# Altium schematic symbol library BlockSchematics.SchLib: 194 symbols
Pins are listed as number, name and electrical type; pins without a type are passive.

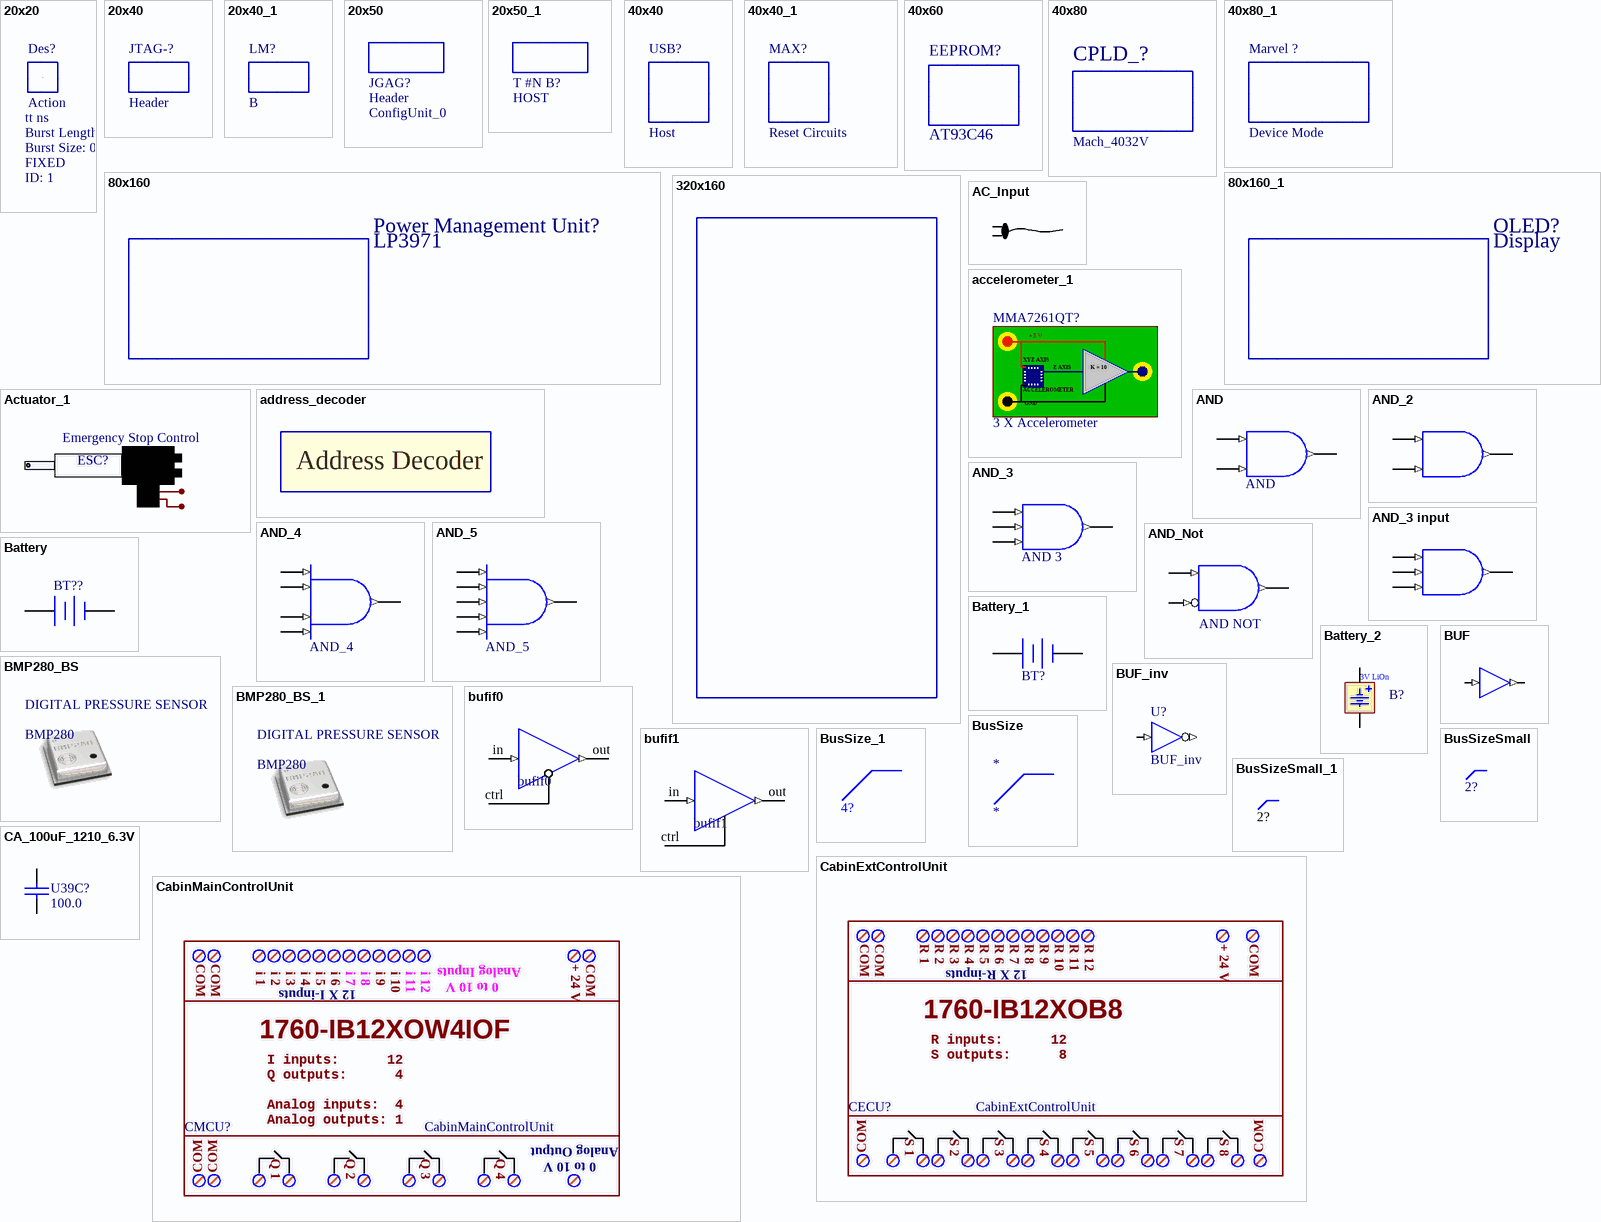
[diagram p0: symbols 20x20 to CabinMainControlUnit]

## 20x20
designator Des?, comment Action  Burst type: FIXED  Time of Action: tt ns  Burst Length: 0  ID: 1
Burst Size: 0
pins: 1, 2, 3, 4, 5, 6, 7, 8, 9

## 20x40
designator JTAG-?, comment Header
pins: 1, 2, 3, 4, 5, 6, 7, A57 0

## 20x40_1
designator LM?, comment B
pins: 1, 2, 3, 4, 5, 6, 7, A57 0

## 20x50
designator JGAG?, comment Header
pins: 0, 1, 2, 3, 4, 5, 6, 7, 8, 9
text: ConfigUnit_0

## 20x50_1
designator T #N B?, comment HOST
pins: 0, 1, 2, 3, 4, 5, 6, 7, 8, 9

## 40x40
designator USB?, comment Host
pins: 1, 2, 3, 4, 5, 6, 7, 8, 9, 10, 11, A57 0

## 40x40_1
designator MAX?, comment Reset Circuits
pins: 1, 2, 3, 4, 5, 6, 7, 8, 9, 10, 11, A57 0

## 40x60
designator EEPROM?, comment AT93C46
pins: 1, 2, 3, 4, 5, 6, 7, 8, 9, 10, 11, 12, 13, 14, 15, A57 0

## 40x80
designator CPLD_?, comment Mach_4032V
pins: 0, 1, 2, 3, 4, 5, 6, 7, 8, 9, 10, 11, 12, 13, 14, 15, 16, 17, 18, 19

## 40x80_1
designator Marvel ?, comment Device Mode
pins: 0, 1, 2, 3, 4, 5, 6, 7, 8, 9, 10, 11, 12, 13, 14, 15, 16, 17, 18, 19

## 80x160
designator Power Management Unit?, comment LP3971
pins: 0, 1, 2, 3, 4, 5, 6, 7, 8, 9, 10, 11, 12, 13, 14, 15, 16, 17, 18, 19, 20, 21, 22, 23, 24, 25, 26, 27, 28, 29, 30, 31, 32, 33, 34, 35, 36, 37, 38, 39, 40, 41, 42, 43

## 80x160_1
designator OLED?, comment Display
pins: 0, 1, 2, 3, 4, 5, 6, 7, 8, 9, 10, 11, 12, 13, 14, 15, 16, 17, 18, 19, 20, 21, 22, 23, 24, 25, 26, 27, 28, 29, 30, 31, 32, 33, 34, 35, 36, 37, 38, 39, 40, 41, 42, 43

## 320x160
designator ??, comment ??  (value not drawn)
pins: 0, 1, 2, 3, 4, 5, 6, 7, 8, 9, 10, 11, 12, 13, 14, 15, 16, 17, 18, 19, 20, 21, 22, 22, 23, 23, 23, 23, 24, 24, 24, 24, 24, 24, 25, 25, 25, 25, 25, 25, 25, 25, 26, 26, 26, 26, 26, 26, 26, 26, 26, 27, 27, 27, 27, 27, 27, 27, 27, 27, 28, 28, 28, 28, 28, 28, 28, 28, 29, 29, 29, 29, 29, 29, 30, 30, 30, 30, 31, 31, 32, 33, 34, 35, 36, 37, 38, 39, 40, 41, 42, 43

## AC_Input
designator *?  (value not drawn)

## accelerometer_1
designator MMA7261QT?, comment 3 X Accelerometer
text: + 5 V; XYZ AXIS; Z AXIS; K = 10; ACCELEROMETER; GND

## Actuator_1
designator ESC?, comment Emergency Stop Control

## address_decoder
designator ?, comment ?  (value not drawn)
pins: 4, 4, 4, 4, 4, 4, 4, 4, 4, 4, 5, 5, 5, 5, 5, 5, 5, 5, 5, 5, 5, 5, 6, 6, 6, 6, 6, 6, 6, 6, 6, 6
text: Address Decoder

## AND
designator U?
2 Input AND
pins: A (in), B (in), Y (out)

## AND_2
designator U?, comment AND 2  (value not drawn)
2 Input AND
pins: A (in), B (in), Y (out)

## AND_3
designator U?, comment AND 3
AND 3 input
pins: A (in), B (in), C (in), Y (out)

## AND_3 input
designator U?, comment AND 3  (value not drawn)
2 Input AND
pins: A (in), B (in), C (in), Y (out)

## AND_4
designator U?
4 Input AND
pins: A (in), B (in), C (in), D (in), Y (out)

## AND_5
designator U?
4 Input AND
pins: A (in), B (in), C (in), D (in), E (in), Y (out)

## AND_Not
designator U?, comment AND NOT
2 Input AND
pins: A (in), B (in), Y (out)

## Battery
designator BT??  (value not drawn)
Multicell Battery; Published: 24-Mar-1999; LatestRevisionDate: 17-Jul-2002; LatestRevisionNote: Re-released for DXP Platform.; PackageReference: BAT-2; Publisher: Altium Limited; PackageDescription: Battery; 2 Leads
footprint BAT-2 (Battery; 2 Leads)
pins: 1 +, 2 -

## Battery_1
designator BT?, comment Battery  (value not drawn)
Multicell Battery; Published: 24-Mar-1999; LatestRevisionDate: 17-Jul-2002; LatestRevisionNote: Re-released for DXP Platform.; PackageReference: BAT-2; Publisher: Altium Limited
footprint BAT-2 (Multicell Battery; 2 Leads)
pins: 1 +, 2 -

## Battery_2
designator B?  (value not drawn)
pins: 1, 2
text: 3V LiOn

## BMP280_BS
designator DIGITAL PRESSURE SENSOR, comment BMP280

## BMP280_BS_1
designator DIGITAL PRESSURE SENSOR, comment BMP280

## BUF
designator U?  (value not drawn)
1-bit General Purpose (Non-inverting) Buffer
pins: I (in), O (out)

## BUF_inv
designator U?
1-bit General Purpose (Non-inverting) Buffer
pins: I (in), O (out)

## bufif0
designator U?
pins: ctrl, in (in), out (out)

## bufif1
designator U?
pins: ctrl, in (in), out (out)

## BusSize
designator *

## BusSize_1
designator 4?, comment BusSize  (value not drawn)

## BusSizeSmall
designator 2?, comment BusSize  (value not drawn)

## BusSizeSmall_1
designator 2?, comment BusSize  (value not drawn)

## CA_100uF_1210_6.3V
designator U39C?, comment 100.0
CAP 100UF 6.3V CERAMIC X5R 1210; Part_Number: ECJ-4YB0J107M; Vendor: Panasonic - ECG; Digi-Key Part Number: PCC2267CT-ND
simulation model CAP (Semiconductor Capacitor)
signal-integrity model Cap Semi
footprint 1210
pins: 1, 2

## CabinExtControlUnit
designator CECU?
text: COM; R 1; R 2; R 3; R 4; R 5; R 6; R 7; R 8; R 9; R 10; R 11; R 12; + 24 V; 12 X R-inputs; 1760-IB12XOB8; R inputs:      12; S outputs:      8; S 1; S 2; S 3; S 4; S 5; S 6; S 7; S 8

## CabinMainControlUnit
designator CMCU?
text: COM; Analog Inputs; + 24 V; i 1; i 2; i 3; i 4; i 5; i 6; i 7; i 8; i 9; i 10; i 11; i 12; 0 to 10 V; 12 X I-inputs; 1760-IB12XOW4IOF; I inputs:      12; Q outputs:      4; Analog inputs:  4; Analog outputs: 1; Analog Output; Q 1; Q 2; Q 3; Q 4

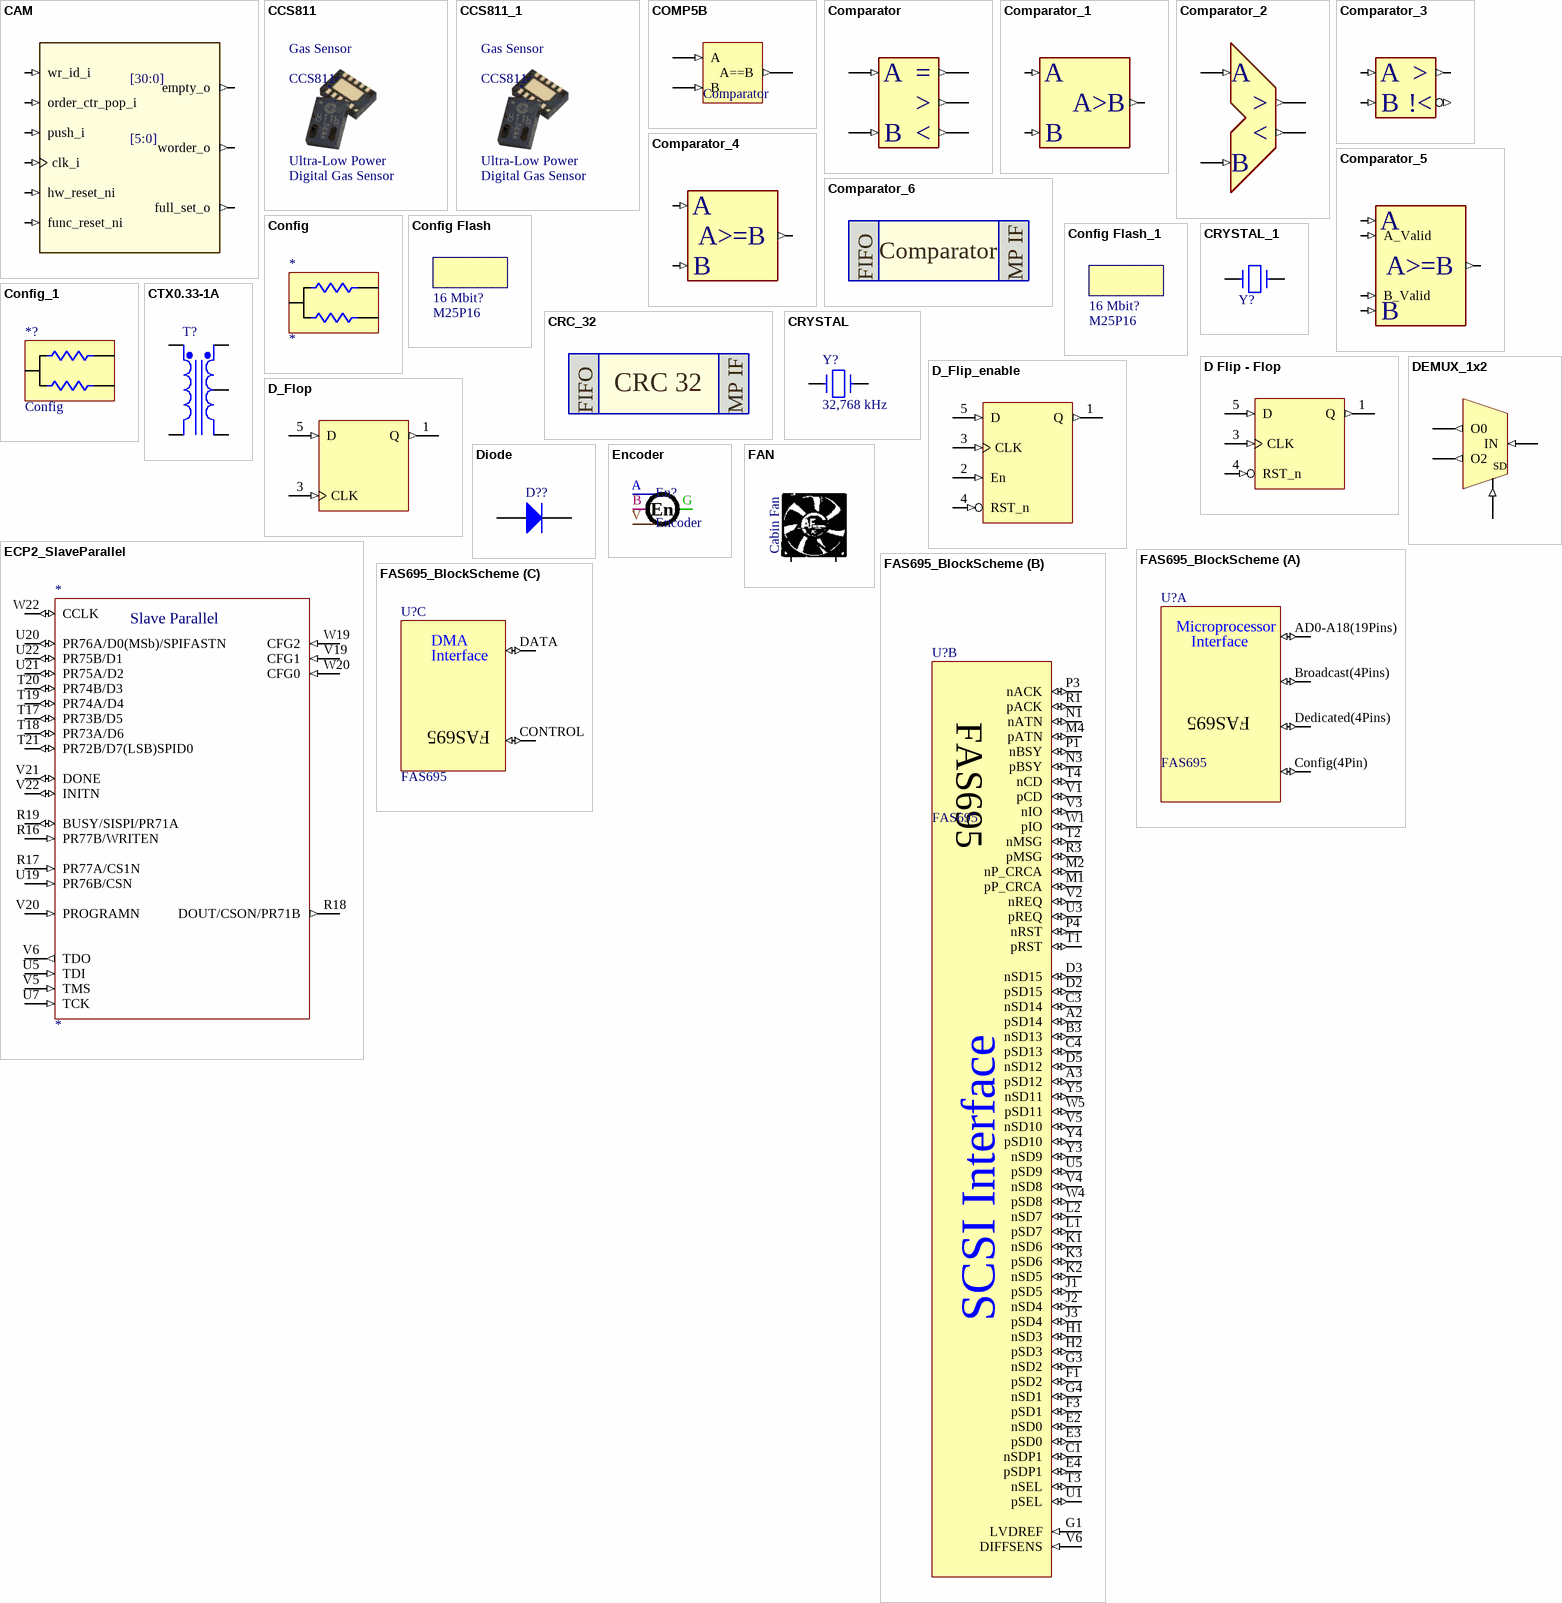
[diagram p1: symbols CAM to FAS695_BlockScheme]

## CAM
designator ?  (value not drawn)
pins: clk_i (in), empty_o (out), full_set_o (out), func_reset_ni (in), hw_reset_ni (in), order_ctr_pop_i (in), push_i (in), worder_o (out), wr_id_i (in)
text: [30:0]; [5:0]

## CCS811
designator Gas Sensor  1: Ultra-Low Power  2: Digital Gas Sensor

## CCS811_1
designator Gas Sensor, comment CCS811  1: Ultra-Low Power  2: Digital Gas Sensor

## COMP5B
designator U?, comment Comparator
5-Bit Identity Comparator, Bus Version
pins: A (in), B (in), EQ A==B (out)

## Comparator
designator *  (value not drawn)
pins: 1 A (in), 2 A (in), 3 A (out), 4 A (out), 5 A (out)
text: >; B; <

## Comparator_1
designator *  (value not drawn)
pins: 3 Out (out), A_Data[31..0] A (in), B_Data[31..0] B (in)
text: A>B

## Comparator_2
designator *  (value not drawn)
pins: 1 A (in), 2 A (in), 4 A (out), 4 A (out)
text: >; <; B

## Comparator_3
designator *  (value not drawn)
pins: 1 A (in), 2 A (in), 3 A (out), 4 A (out)
text: >; B; !<

## Comparator_4
designator *  (value not drawn)
pins: 3 Out (out), A_Data[31..0] A (in), B_Data[31..0] B (in)
text: A>=B

## Comparator_5
designator *  (value not drawn)
pins: 3 Out (out), A_Data[31..0] A (in), A_Valid (in), B_Data[31..0] B (in), B_Valid (in)
text: A>=B

## Comparator_6
designator ??, comment ??  (value not drawn)
pins: 1, 2, 3, 4, 5, 6
text: Comparator; FIFO; MP IF

## Config
designator *
pins: 1, 1, 2, 2, 3, 4, 5

## Config Flash
designator 16 Mbit?, comment M25P16
pins: 0, 1, 2, 3, 4, 5, 6, 7, 8, 9

## Config Flash_1
designator 16 Mbit?, comment M25P16
pins: 0, 1, 2, 3, 4, 5, 6, 7, 8, 9

## Config_1
designator *?, comment Config
pins: 1, 1, 2, 2, 3, 4, 5

## CRC_32
designator ??, comment ??  (value not drawn)
pins: 1, 2, 3, 4, 5, 6
text: CRC 32; FIFO; MP IF

## CRYSTAL
designator Y?, comment 32,768 kHz
Crystal
pins: 1, 2

## CRYSTAL_1
designator Y?, comment 33 MHz  (value not drawn)
Crystal
pins: 1, 2

## CTX0.33-1A
designator T?  (value not drawn)
Surface Mount 1:1 Transformer, 4.98A RMS Series Current, Octa-Pac Plus; Parallel_OCL: 0.402uH ± 25%; Parallel_I(Sat): 12.5A (Peak); Parallel_I(RMS): 10.00A DC; Parallel_DCR: 0.0037 Ohms (Typical @ 20°C); Series_OCL: 1.61uH ± 25%; Series_I(Sat): 6.25uH (Minimum); Series_I(RMS): 4.98A DC; Series_DCR: 0.015 Ohms (Typical @ 20°C); Published: 17-Jul-2002; DatasheetDocument: Dec-2001; PackageDocument: Dec-2001; PackageReference: OPA1; Publisher: Altium Limited; ComponentLink1Description: Manufacturer Link; ComponentLink1URL: http://www.cooperet.com/; ComponentLink2Description: Datasheet; ComponentLink2URL: http://www.cooperet.com/pdfs_html/EconoPacOctaPacOctaPacPlus_Specs.pdf
footprint OPA1 (SM Inductor/Transformer; 4 Leads; Body 8.89 x 8.89 x 4.19 mm (LxWxH))
pins: 1 Pri+, 2 Pri-, 3 Sec-, 4 Sec+, 4 Sec+

## D Flip - Flop
designator U??  (value not drawn)
D-Type Flip-Flop
pins: 1 Q (out), 3 CLK (in), 4 RST_n (in), 5 D (in), 7 GND (power) hidden to GND, 14 VDD (power) hidden to VDD

## D_Flip_enable
designator U?  (value not drawn)
D-Type Flip-Flop
pins: 1 Q (out), 2 En (in), 3 CLK (in), 4 RST_n (in), 5 D (in), 7 GND (power) hidden to GND, 14 VDD (power) hidden to VDD

## D_Flop
designator U??  (value not drawn)
D-Type Flip-Flop
pins: 1 Q (out), 3 CLK (in), 5 D (in), 7 GND (power) hidden to GND, 14 VDD (power) hidden to VDD

## DEMUX_1x2
designator U?  (value not drawn)
2 to 1 Mux
pins: IN (in), O0 (out), O2 (out), SD (in)

## Diode
designator D??  (value not drawn)
Default Diode; Published: 8-Jun-2000; LatestRevisionDate: 17-Jul-2002; LatestRevisionNote: Re-released for DXP Platform.; PackageVersion: Sep-1996; PackageReference: SMC; Publisher: Altium Limited; PackageDescription: DO-214-AB/SMC; 2 C-Bend Leads; Body 7.9 x 5.9 mm, inc. leads (LxW); Code_JEDEC: DO-214-AB
footprint SMC (DO-214-AB/SMC; 2 C-Bend Leads; Body 7.9 x 5.9 mm, inc. leads (LxW))
simulation model DIODE (Diode)
signal-integrity model Diode
pins: 1 A, 2 K

## ECP2_SlaveParallel
designator *
pins: R16 PR77B/WRITEN (in), R17 PR77A/CS1N (in), R18 DOUT/CSON/PR71B (out), R19 BUSY/SISPI/PR71A (io), T17 PR73B/D5 (io), T18 PR73A/D6 (io), T19 PR74A/D4 (io), T20 PR74B/D3 (io), T21 PR72B/D7(LSB)SPID0 (io), U5 TDI (in), U7 TCK (in), U19 PR76B/CSN (in), U20 PR76A/D0(MSb)/SPIFASTN (io), U21 PR75A/D2 (io), U22 PR75B/D1 (io), V5 TMS (in), V6 TDO (out), V19 CFG1 (in), V20 PROGRAMN (in), V21 DONE (io), V22 INITN (io), W19 CFG2 (in), W20 CFG0 (in), W22 CCLK (io)
text: Slave Parallel

## Encoder
designator En?
pins: A, B, G Sensor GND, V Sensor_VCC
text: En

## FAN
designator FAN?, comment Cabin Fan

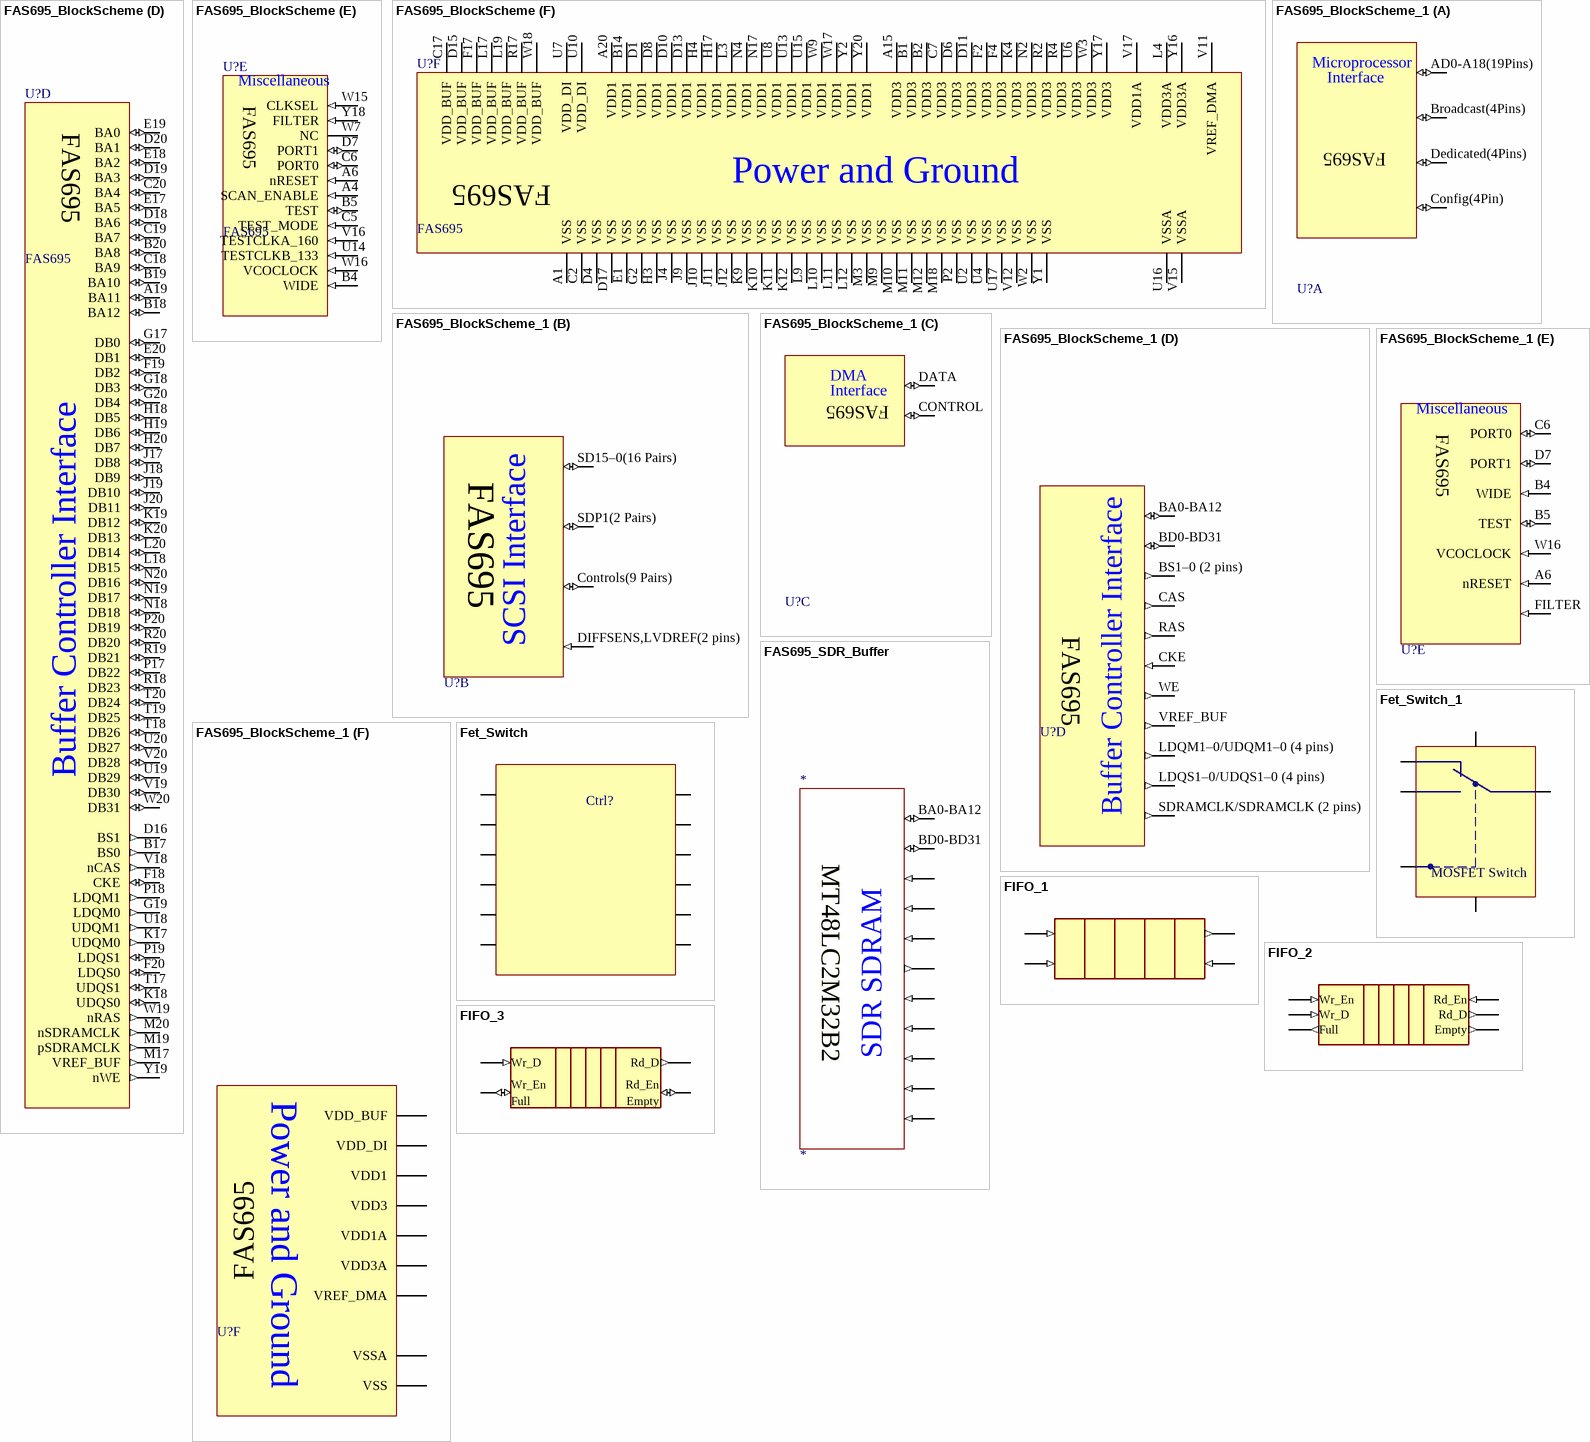
[diagram p2: symbols FAS695_BlockScheme to FIFO_3]

## FAS695_BlockScheme
designator U?, comment FAS695
Fast Architecture SCSI Processor
part A pins: AD0-A18(19Pins) (io), Broadcast(4Pins) (io), Config(4Pin) (io), Dedicated(4Pins) (io)
part B pins: A2 pSD14 (io), A3 pSD12 (io), B3 nSD13 (io), C1 nSDP1 (io), C3 nSD14 (io), C4 pSD13 (io), D2 pSD15 (io), D3 nSD15 (io), D5 nSD12 (io), E2 nSD0 (io), E3 pSD0 (io), E4 pSDP1 (io), F1 pSD2 (io), F3 pSD1 (io), G1 LVDREF (in), G3 nSD2 (io), G4 nSD1 (io), H1 nSD3 (io), H2 pSD3 (io), J1 pSD5 (io), J2 nSD4 (io), J3 pSD4 (io), K1 nSD6 (io), K2 nSD5 (io), K3 pSD6 (io), L1 pSD7 (io), L2 nSD7 (io), M1 pP_CRCA (io), M2 nP_CRCA (io), M4 pATN (io), N1 nATN (io), N3 pBSY (io), P1 nBSY (io), P3 nACK (io), P4 nRST (io), R1 pACK (io), R3 pMSG (io), T1 pRST (io), T2 nMSG (io), T3 nSEL (io), T4 nCD (io), U1 pSEL (io), U3 pREQ (io), U5 pSD9 (io), V1 pCD (io), V2 nREQ (io), V3 nIO (io), V4 nSD8 (io), V5 nSD10 (io), V6 DIFFSENS (in), W1 pIO (io), W4 pSD8 (io), W5 pSD11 (io), Y3 nSD9 (io), Y4 pSD10 (io), Y5 nSD11 (io)
part C pins: CONTROL (io), DATA (io)
part D pins: A19 BA11 (io), B17 BS0 (out), B18 BA12 (io), B19 BA10 (io), B20 BA8 (io), C18 BA9 (io), C19 BA7 (io), C20 BA4 (io), D16 BS1 (out), D18 BA6 (io), D19 BA3 (io), D20 BA1 (io), E17 BA5 (io), E18 BA2 (io), E19 BA0 (io), E20 DB1 (io), F18 CKE (io), F19 DB2 (io), F20 LDQS0 (io), G17 DB0 (io), G18 DB3 (io), G19 LDQM0 (out), G20 DB4 (io), H18 DB5 (io), H19 DB6 (io), H20 DB7 (io), J17 DB8 (io), J18 DB9 (io), J19 DB10 (io), J20 DB11 (io), K17 UDQM0 (out), K18 UDQS0 (io), K19 DB12 (io), K20 DB13 (io), L18 DB15 (io), L20 DB14 (io), M17 VREF_BUF (out), M19 pSDRAMCLK (out), M20 nSDRAMCLK (out), N18 DB18 (io), N19 DB17 (io), N20 DB16 (io), P17 DB22 (io), P18 LDQM1 (out), P19 LDQS1 (io), P20 DB19 (io), R18 DB23 (io), R19 DB21 (io), R20 DB20 (io), T17 UDQS1 (io), T18 DB26 (io), T19 DB25 (io), T20 DB24 (io), U18 UDQM1 (out), U19 DB29 (io), U20 DB27 (io), V18 nCAS (out), V19 DB30 (io), V20 DB28 (io), W19 nRAS (out), W20 DB31 (io), Y19 nWE (out)
part E pins: A4 SCAN_ENABLE (in), A6 nRESET (in), B4 WIDE (in), B5 TEST (io), C5 TEST_MODE (in), C6 PORT0 (io), D7 PORT1 (io), U14 TESTCLKB_133 (in), V16 TESTCLKA_160 (in), W7 NC, W15 CLKSEL (in), W16 VCOCLOCK (in), Y18 FILTER (in)
part F pins: A1 VSS (power), A15 VDD3 (power), A20 VDD1 (power), B1 VDD3 (power), B2 VDD3 (power), B14 VDD1 (power), C2 VSS (power), C7 VDD3 (power), C17 VDD_BUF (power), D1 VDD1 (power), D4 VSS (power), D6 VDD3 (power), D8 VDD1 (power), D10 VDD1 (power), D11 VDD3 (power), D13 VDD1 (power), D15 VDD_BUF (power), D17 VSS (power), E1 VSS (power), F2 VDD3 (power), F4 VDD3 (power), F17 VDD_BUF (power), G2 VSS (power), H3 VSS (power), H4 VDD1 (power), H17 VDD1 (power), J4 VSS (power), J9 VSS (power), J10 VSS (power), J11 VSS (power), J12 VSS (power), K4 VDD3 (power), K9 VSS (power), K10 VSS (power), K11 VSS (power), K12 VSS (power), L3 VDD1 (power), L4 VDD3A (power), L9 VSS (power), L10 VSS (power), L11 VSS (power), L12 VSS (power), L17 VDD_BUF (power), L19 VDD_BUF (power), M3 VSS (power), M9 VSS (power), M10 VSS (power), M11 VSS (power), M12 VSS (power), M18 VSS (power), N2 VDD3 (power), N4 VDD1 (power), N17 VDD1 (power), P2 VSS (power), R2 VDD3 (power), R4 VDD3 (power), R17 VDD_BUF (power), U2 VSS (power), U4 VSS (power), U6 VDD3 (power), U7 VDD_DI (power), U8 VDD1 (power), U10 VDD_DI (power), U13 VDD1 (power), U15 VDD1 (power), U16 VSSA (power), U17 VSS (power), V11 VREF_DMA (power), V12 VSS (power), V15 VSSA (power), V17 VDD1A (power), W2 VSS (power), W3 VDD3 (power), W9 VDD1 (power), W17 VDD1 (power), W18 VDD_BUF (power), Y1 VSS (power), Y2 VDD1 (power), Y16 VDD3A (power), Y17 VDD3 (power), Y20 VDD1 (power)
part A text: Microprocessor; Interface
part B text: SCSI Interface
part C text: DMA; Interface
part D text: Buffer Controller Interface
part E text: Miscellaneous
part F text: Power and Ground

## FAS695_BlockScheme_1
designator U?, comment SCSI Host  (value not drawn)
Fast Architecture SCSI Processor
part A pins: AD0-A18(19Pins) (io), Broadcast(4Pins) (io), Config(4Pin) (io), Dedicated(4Pins) (io)
part B pins: Controls(9 Pairs) (io), DIFFSENS,LVDREF(2 pins) (in), SD15–0(16 Pairs) (io), SDP1(2 Pairs) (io)
part C pins: CONTROL (io), DATA (io)
part D pins: BA0-BA12 (io), BD0-BD31 (io), BS1–0 (2 pins) (out), CAS (out), CKE (in), LDQM1–0/UDQM1–0 (4 pins) (out), LDQS1–0/UDQS1–0 (4 pins) (out), RAS (out), SDRAMCLK/SDRAMCLK (2 pins) (out), VREF_BUF (out), WE (out)
part E pins: A6 nRESET (in), B4 WIDE (in), B5 TEST (io), C6 PORT0 (io), D7 PORT1 (io), FILTER (in), W16 VCOCLOCK (in)
part F pins: ? VDD_BUF (power), ? VDD_DI (power), ? VDD1 (power), ? VDD3 (power), ? VDD1A (power), ? VDD3A (power), ? VREF_DMA (power), ? VSSA (power), ? VSS (power)
part A text: Microprocessor; Interface; FAS695
part B text: FAS695; SCSI Interface
part C text: DMA; Interface; FAS695
part D text: FAS695; Buffer Controller Interface
part E text: Miscellaneous; FAS695
part F text: Power and Ground; FAS695

## FAS695_SDR_Buffer
designator *
pins: ?1 (in), ?2 (out), ?3 (in), ?4 (in), ?5 (in), ?6 (in), ?7 (in), ?8 (in), ?9 (in), BA0-BA12 (io), BD0-BD31 (io)
text: MT48LC2M32B2; SDR SDRAM

## Fet_Switch
designator Ctrl?
pins: 1, 2, 3, 4, 5, 6, 7, 8, 9, 10, 11, 12

## Fet_Switch_1
designator *?  (value not drawn)
pins: 1, 2, 6, 7, 8, 12
text: MOSFET Switch

## FIFO_1
designator U?, comment FIFO  (value not drawn)
pins: 1 (in), 2 (in), 3 (in), 5 (out)

## FIFO_2
designator U?, comment FIFO  (value not drawn)
pins: 1 (in), 2 (in), 3 (out), 5 (out), 6 (out), 7 (in)
text: Wr_En; Rd_En; Wr_D; Rd_D; Full; Empty

## FIFO_3
designator U?, comment FIFO  (value not drawn)
pins: 1 (io), 2 (io), [5..6] 5 (in), [7..9] 7..9 (out)
text: Wr_D; Rd_D; Wr_En; Full; Empty; Rd_En

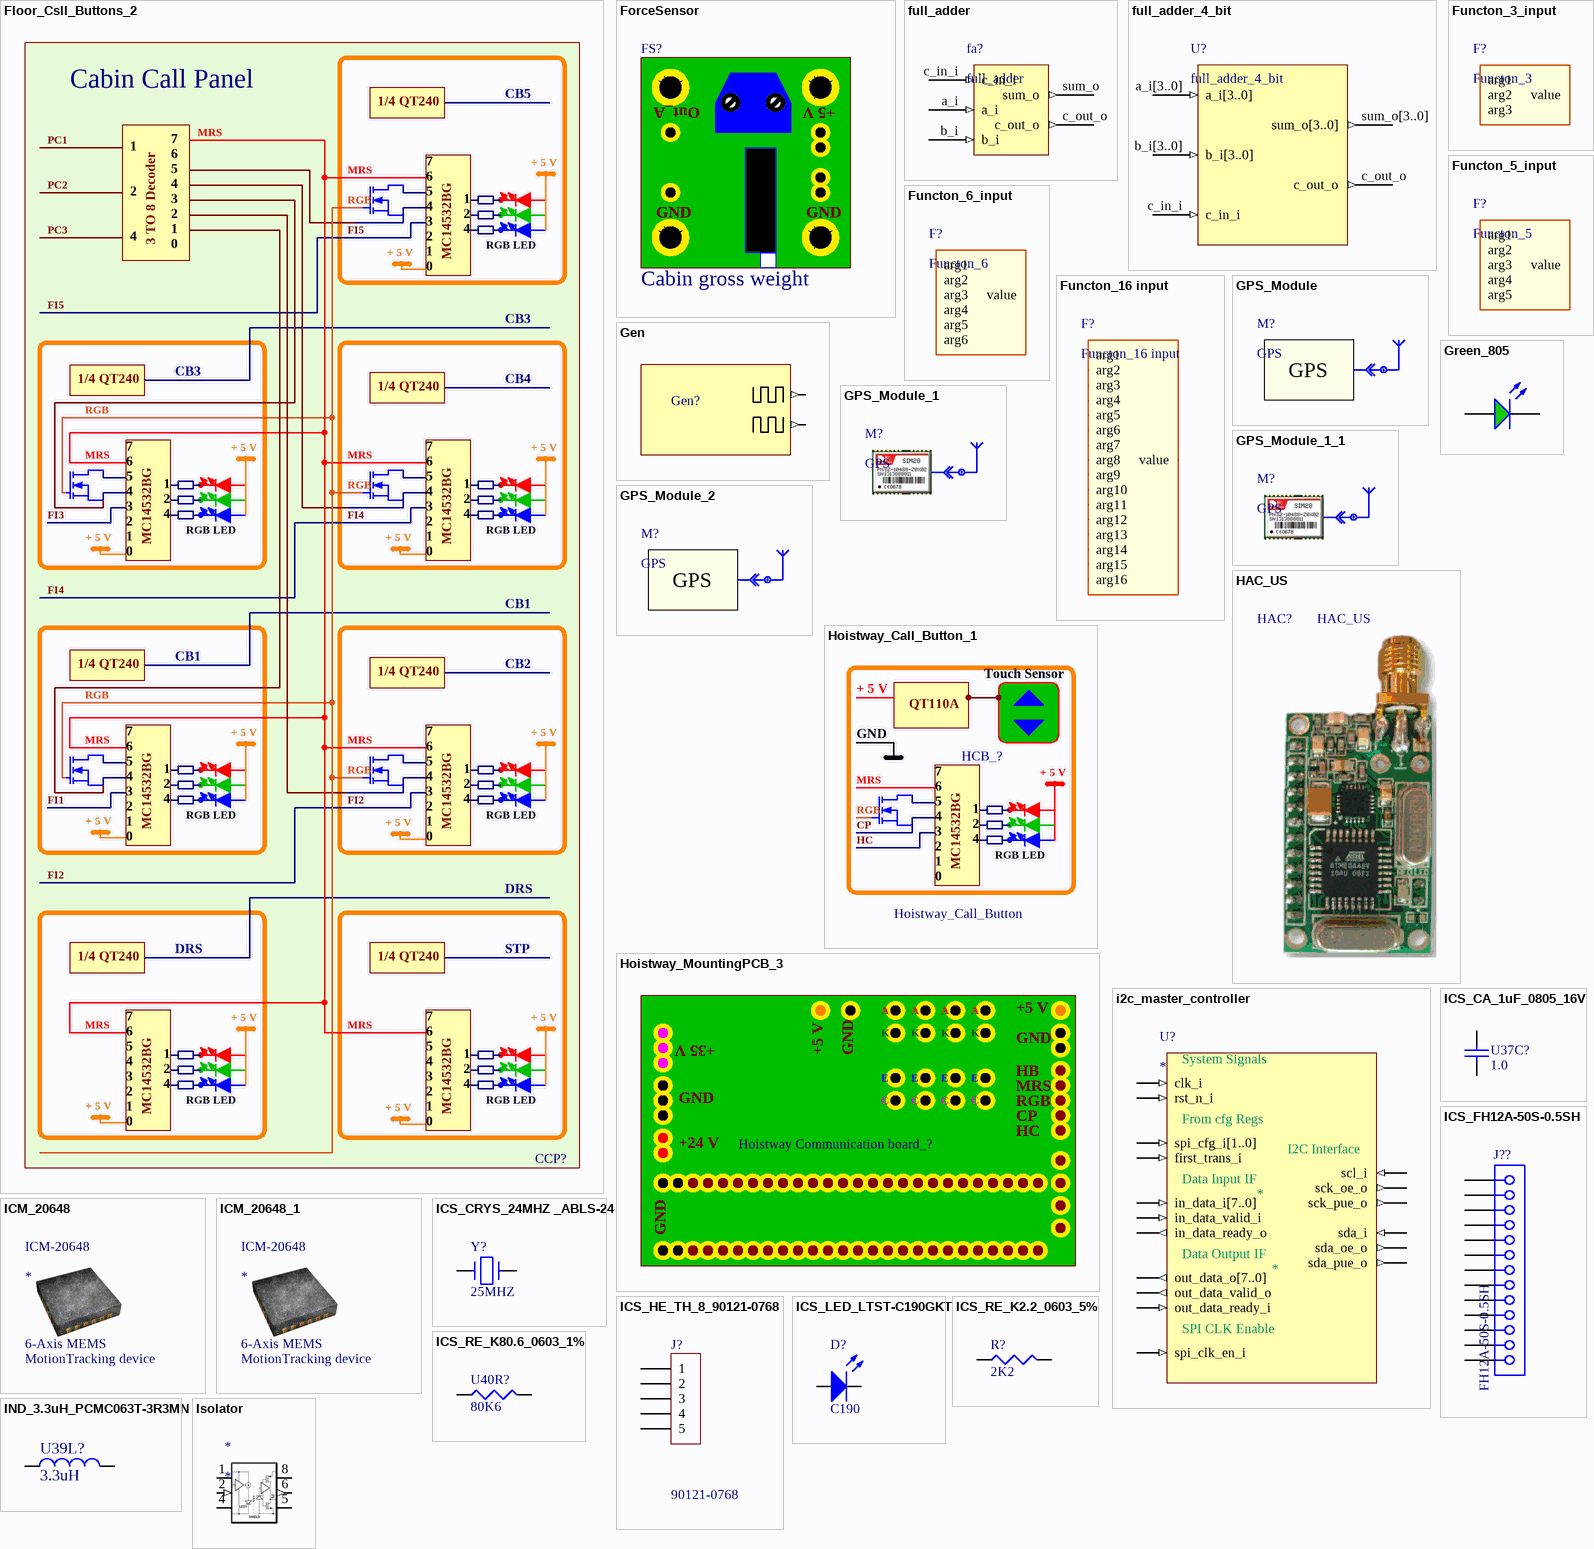
[diagram p3: symbols Floor_Csll_Buttons_2 to Isolator]

## Floor_Csll_Buttons_2
designator CCP?, comment Cabin Call Panel
text: CB5; 1/4 QT240; MRS; PC1; 7; 1; 6; + 5 V; 5; PC2; 4; 2; 3; RGB; PC3; FI5; 3 TO 8 Decoder; 0; RGB LED; MC14532BG; CB3; CB4; FI3; FI4; CB1; CB2; FI1; FI2; DRS; STP

## ForceSensor
designator FS?, comment Cabin gross weight
text: Out_A; +5 V; GND

## full_adder
designator fa?
pins: a_i (in), b_i (in), c_in_i (in), c_out_o (out), sum_o (out)

## full_adder_4_bit
designator U?
pins: a_i[3..0] (in), b_i[3..0] (in), c_in_i (in), c_out_o (out), sum_o[3..0] (out)

## Functon_3_input
designator F?, comment Functon_3
pins: arg1, arg2, arg3, value

## Functon_5_input
designator F?, comment Functon_5
pins: arg1, arg2, arg3, arg4, arg5, value

## Functon_6_input
designator F?, comment Functon_6
pins: arg1, arg2, arg3, arg4, arg5, arg6, value

## Functon_16 input
designator F?
pins: arg1, arg2, arg3, arg4, arg5, arg6, arg7, arg8, arg9, arg10, arg11, arg12, arg13, arg14, arg15, arg16, value

## Gen
designator Gen?  (value not drawn)
pins: 0 (out), 1 (out)

## GPS_Module
designator M?, comment GPS

## GPS_Module_1
designator M?, comment GPS

## GPS_Module_1_1
designator M?, comment GPS

## GPS_Module_2
designator M?, comment GPS

## Green_805
designator DS?, comment Green  (value not drawn)
LED GREEN S TYPE SMD; Manufacturer Part Number: LNJ306G5URA; Vendor: Panasonic - SSG; Color: Green Diffused; Millicandela Rating: 2.6; Voltage Rating: 2.6V; Wavelength: 565 nm; Revision: 060924; Digi-Key Part Number: P11137TR-ND; Package / Case: J-Lead (1.7mm x .9mm); Packaging: Tape & Reel (TR)
pins: 1 A, 2 K

## HAC_US
designator HAC?

## Hoistway_Call_Button_1
designator HCB_?, comment Hoistway_Call_Button
text: Touch Sensor; + 5 V; QT110A; GND; 7; MRS; 6; 5; RGB; 1; 4; CP; 2; 3; HC; RGB LED; MC14532BG; 0

## Hoistway_MountingPCB_3
designator Hoistway Communication board_?, comment CFS_1  (value not drawn)
text: A; +5 V; +35 V; K; GND; HB; E; MRS; RGB; C; CP; HC; +24 V

## i2c_master_controller
designator U?
pins: clk_i (in), first_trans_i (in), in_data_i[7..0] (in), in_data_ready_o (out), in_data_valid_i (in), out_data_o[7..0] (out), out_data_ready_i (in), out_data_valid_o (out), rst_n_i (in), sck_oe_o (out), sck_pue_o (out), scl_i (in), sda_i (in), sda_oe_o (out), sda_pue_o (out), spi_cfg_i[1..0] (in), spi_clk_en_i (in)
text: System Signals; From cfg Regs; I2C Interface; Data Input IF; Data Output IF; SPI CLK Enable

## ICM_20648
designator ICM-20648  1: 6-Axis MEMS  2: MotionTracking device

## ICM_20648_1
designator ICM-20648  1: 6-Axis MEMS  2: MotionTracking device

## ICS_CA_1uF_0805_16V
designator U37C?, comment 1.0
CAP 1UF 16V CERAMIC 0805 X5R ROHS; Part_Number: ECJ-2FB1C105K; Item_No: PCR-0320-000A; Item_Desc_2: PCC2249CT; Item_Desc_1: P.C CAP 1UF CERAMIC 805 ROHS; Spec: ECJ-High.pdf; Vendor: Panasonic - ECG; Lead Free Status: Lead free; RoHS Status: RoHS compliant; Voltage - Supply: 16V
footprint 0805
pins: 1, 2

## ICS_CRYS_24MHZ _ABLS-24
designator Y?, comment 25MHZ
CRYSTAL 24.000MHZ 18PF FUND SMD; Part_Number: ABLS-24.000MHZ-B2-T; Vendor: Abracon Corporation; Spec: abls.pdf; Item_Desc_1: S.C CRST 24 MHZ SMT ROHS; Item_No: SCR-0088-000A; Digi-Key Part Number: 535-9076-1-ND; Value: 24.000MHZ; Package: HC49/US; Lead Free Status: Lead free; RoHS Status: RoHS compliant; Load Capacitance: 18pF; Item_Desc_2: abls-24.000mhz-b2-t
footprint HC49/US
pins: 1, 2

## ICS_FH12A-50S-0.5SH
designator J??, comment FH12A-50S-0.5SH
CONN FPC/FFC 50POS .5MM HORZ SMD; Part_Number: FH12A-50S-0.5SH(55); Vendor: Hirose Electronic Co Ltd; Pitch: 0.02" (0.5mm); Spec: e58605370.pdf; Item_Desc_1: CON 50P 0.5MM FLEX HEADER ROHS; Item_Desc_2: HIROSE FH12A-50S-0.5SH(55); Item_No: CNR-0332-000A; Digi-Key Part Number: HFK150CT-ND; RoHS Status: RoHS compliant; Lead Free Status: Lead free
footprint FH12A-50S-0.5SH
signal-integrity model Connector
pins: 1, 1, 2, 2, 3, 3, 4, 4, 4, 5, 5, 5, 5

## ICS_HE_TH_8_90121-0768
designator J?, comment 90121-0768
CONN HEADER 8POS .100" R/A GOLD; Pitch: 0.100" (2.54mm); Spec: 901210768_sd.pdf; Vendor: Molex/Waldom Electronics Corp; Item_Desc_1: CON HDR SHRED.100",SINGLE ROHS; Item_Desc_2: WM48114 90121-0768; Item_No: CNR-0216-000A; Digi-Key Part Number: WM8114-ND; Lead Free Status: Lead free; Package: Through Hole, Right Angle; Part_Number: 90121-0768; RoHS Status: RoHS compliant
footprint HDR1X8H (Connector; Header; 8 Position; Right Angle)
pins: 1, 2, 3, 4, 5

## ICS_LED_LTST-C190GKT
designator D?, comment C190
LED GREEN CLEAR 0603; Part_Number: LTST-C190GKT; Item_Desc_1: S.C LED GREEN CLEAR 0603; Item_Desc_2: 160-1183 LTST-C190GKT; Item_No: SCR-0092-000A; Vendor: LITE-ON INC; Package: 0603; Lead Free Status: Lead free; RoHS Status: RoHS compliant
footprint 0603-DI
pins: 1 A, 2 K

## ICS_RE_K2.2_0603_5%
designator R?, comment 2K2
RES 2.2K OHM SMT 603 ROHS; Part_Number: RC0603JR-072K2L; Item_No: PCR-0168-000A; Item_Desc_1: P.C RES 2.2K OHM SMT 603 ROHS; Item_Desc_2: 311-2.2KGRTR 1/10W 5%; Spec: Pu-RC0603_51_PbFree_L_2.pdf; Tolerance: 5%; Vendor: Yageo Corporation; Lead Free Status: Lead free; RoHS Status: RoHS compliant
footprint 0603
pins: 1, 2

## ICS_RE_K80.6_0603_1%
designator U40R?, comment 80K6
RES 80.6K OHM 0603; Part_Number: ERJ-3EKF8062V; Item_Desc_1: P.C RES 80.6K OHM 0603; Item_No: PCR-0500-000A; Item_Desc_2: P80.6KH 1% 1/10W; Spec: ERJ-GRE.pdf; Tolerance: 1%; Vendor: Panasonic - ECG; Lead Free Status: Lead free; RoHS Status: RoHS compliant; Package: 0603 (1608)
footprint 0603
pins: 1, 2

## IND_3.3uH_PCMC063T-3R3MN
designator U39L?, comment 3.3uH
COIL 3.30UH POWER CHOKE 20% SMD RoHS; Part_Number: PCMC063T-3R3MN; Vendor: Susumu Co Ltd; Value: 3.3µH; Spec: PCMC; Current Rating: 6A; Digi-Key Part Number: 408-1106-1-ND; Package: 7.3mm x 6.6mm x 3.0mm; Tolerance: ±20%; Lead Free Status: Lead free; RoHS Status: RoHS compliant; Series: PCMC
simulation model INDUCTOR (Inductor)
signal-integrity model Inductor
footprint PCMC063
pins: 1, 2

## Isolator
designator *
pins: 1 VDD1, 2 Vin (in), 4 GND_1, 5 GND_2, 6 Vout (out), 8 VDD2

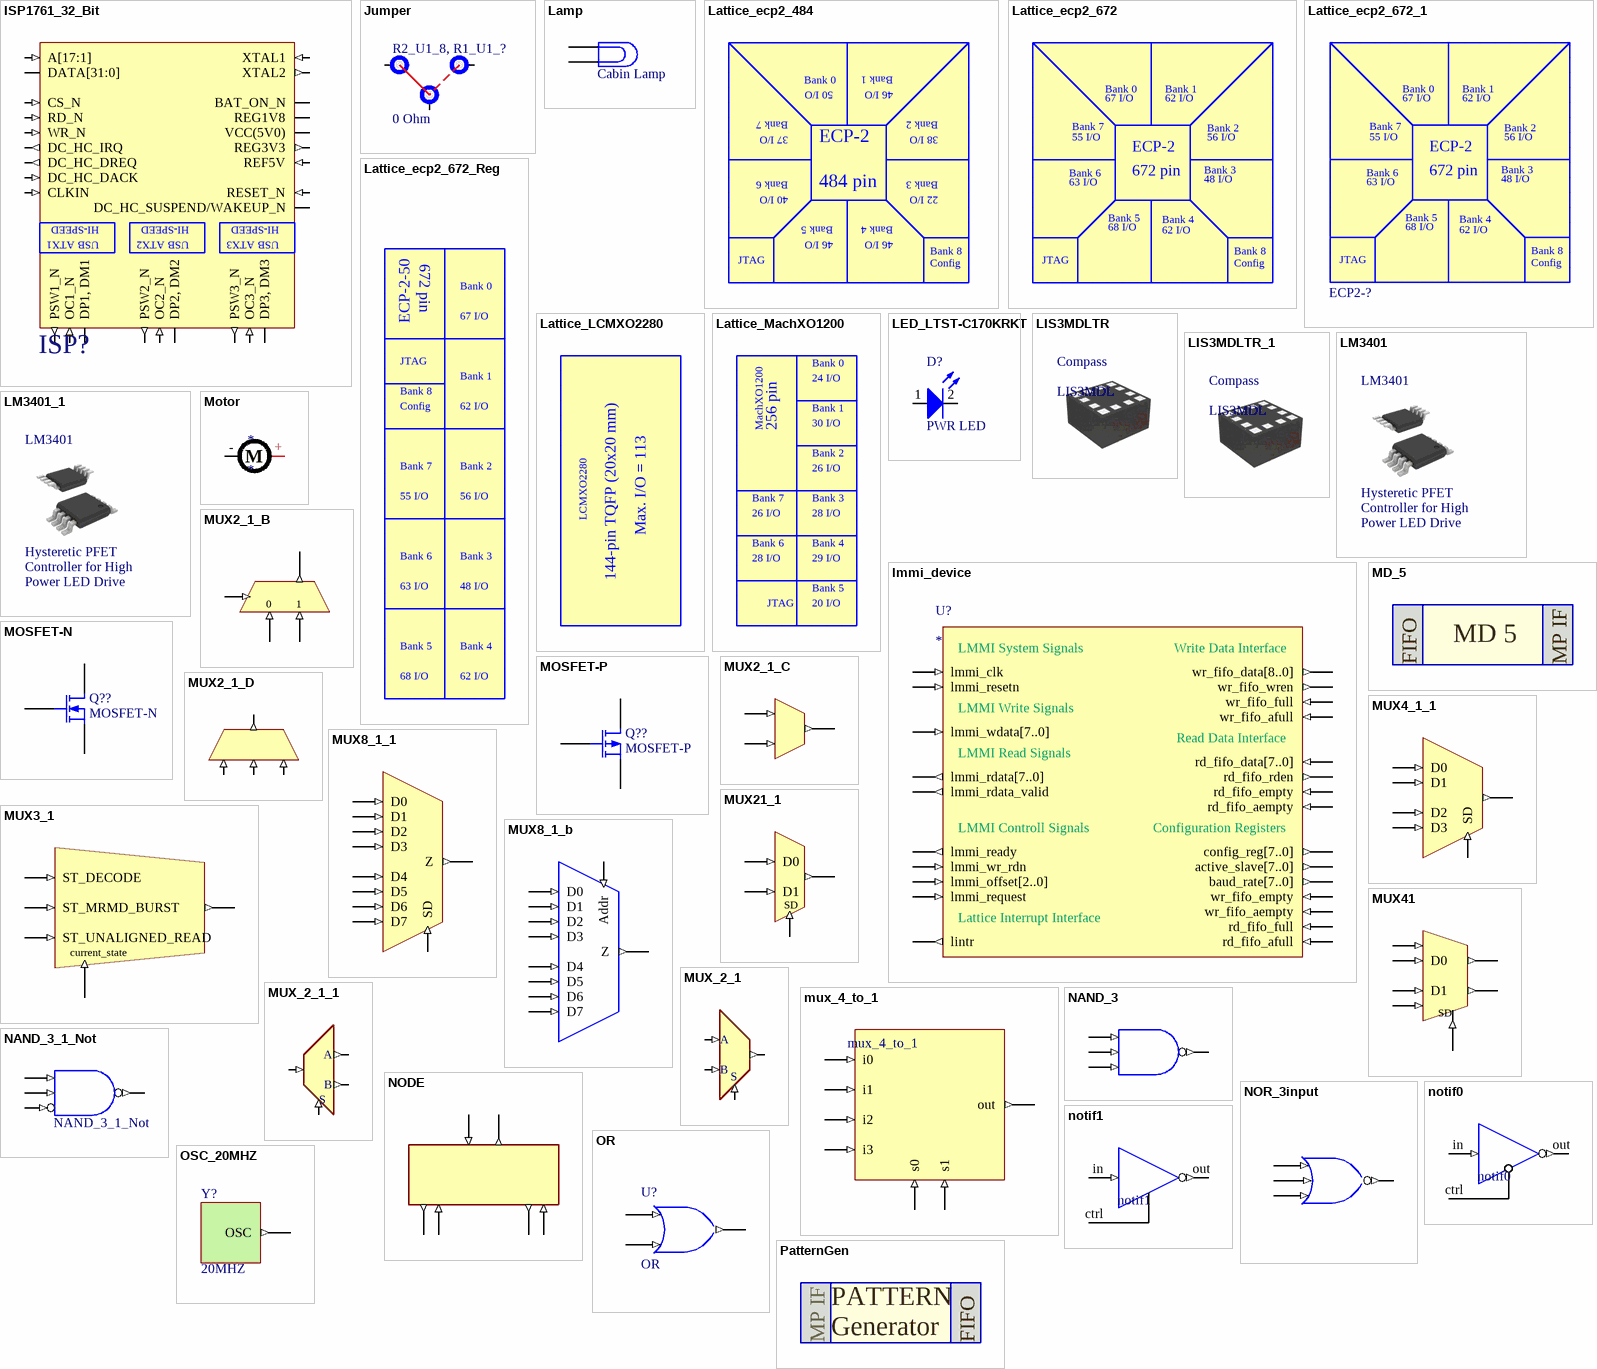
[diagram p4: symbols ISP1761_32_Bit to PatternGen]

## ISP1761_32_Bit
designator ISP?, comment ISP1761  (value not drawn)
Block diagram
pins: ?1 DATA[31:0] (io), ?2 A[17:1] (in), ?3 CS_N (in), ?4 RD_N (in), ?5 WR_N (in), ?6 DC_HC_IRQ (out), ?7 DC_HC_DREQ (out), ?8 DC_HC_DACK (in), ?9 DP1, DM1 (io), ?10 PSW1_N (out), ?11 OC1_N (in), ?12 DP2, DM2 (io), ?13 PSW2_N (out), ?14 OC2_N (in), ?15 DP3, DM3 (io), ?16 PSW3_N (out), ?17 OC3_N (in), ?18 XTAL1 (in), ?19 XTAL2 (out), ?20 CLKIN (in), ?21 RESET_N (in), ?22 DC_HC_SUSPEND/WAKEUP_N (io), ?23 BAT_ON_N, ?24 REG1V8 (power), ?25 VCC(5V0) (power), ?26 REG3V3 (out), ?27 REF5V (in)
text: HI-SPEED; USB ATX1; USB ATX2; USB ATX3

## Jumper
designator R2_U1_8, R1_U1_?, comment 0 Ohm
pins: 1 TP, 1 TP, 1 TP

## Lamp
designator DS?, comment Cabin Lamp
Incandescent Bulb; Published: 24-Mar-1999; LatestRevisionDate: 17-Jul-2002; LatestRevisionNote: Re-released for DXP Platform.; PackageReference: PIN2; Publisher: Altium Limited
footprint PIN2 (Incandescent Bulb; 2 Leads)
pins: 1, 2

## Lattice_ecp2_484
designator ??  (value not drawn)
pins: 1, 2, 3, 4, 5, 6, 7, 8, 9, 10, 11, 12, 13, 14, 15, 16, 17, 18, 19, 20, 21, 22, 23, 24, 25, 26, 27, 28, 29, 30, 31, 32, 33, 34, 35, 36, 37, 38, 39, 40, 41, 42, 43, 44, 45, 46, 47, 48, 49, 50, 51, 52, 53, 54, 55, 56, 57, 58, 59, 60
text: Bank 1; Bank 0; 50 I/O; 46 I/O; Bank 7; Bank 2; 37 I/O; 38 I/O; ECP-2; Bank 6; Bank 3; 40 I/O; 484 pin; 22 I/O; Bank 5; Bank 4; Bank 8; JTAG; Config

## Lattice_ecp2_672
designator *?  (value not drawn)
pins: 1, 2, 3, 4, 5, 6, 7, 8, 9, 10, 11, 12, 13, 14, 15, 16, 17, 18, 19, 20, 21, 22, 23, 24, 25, 26, 27, 28, 29, 30, 31, 32, 33, 34, 35, 36, 37, 38, 39, 40, 41, 42, 43, 44, 45, 46, 47, 48, 49, 50, 51, 52, 53, 54, 55, 56, 57, 58, 59, 60
text: Bank 0; Bank 1; 67 I/O; 62 I/O; Bank 7; Bank 2; 55 I/O; 56 I/O; ECP-2; Bank 6; 672 pin; Bank 3; 48 I/O; 63 I/O; Bank 5; Bank 4; 68 I/O; Bank 8; JTAG; Config

## Lattice_ecp2_672_1
designator ECP2-?, comment U20  (value not drawn)
pins: 1, 2, 3, 4, 5, 6, 7, 8, 9, 10, 11, 12, 13, 14, 15, 16, 17, 18, 19, 20, 21, 22, 23, 24, 25, 26, 27, 28, 29, 30, 31, 32, 33, 34, 35, 36, 37, 38, 39, 40, 41, 42, 43, 44, 45, 46, 47, 48, 49, 50, 51, 52, 53, 54, 55, 56, 57, 58, 59, 60
text: Bank 0; Bank 1; 67 I/O; 62 I/O; Bank 7; Bank 2; 55 I/O; 56 I/O; ECP-2; Bank 6; 672 pin; Bank 3; 48 I/O; 63 I/O; Bank 5; Bank 4; 68 I/O; Bank 8; JTAG; Config

## Lattice_ecp2_672_Reg
designator *??  (value not drawn)
pins: 1, 2, 3, 16, 17, 18, 19, 20, 21, 22, 23, 24, 25, 26, 27, 28, 29, 30, 31, 32, 33, 34, 35, 36, 37, 38, 39, 40, 41, 42, 43, 44, 45, 46, 47, 48, 49, 50, 51, 51, 51, 51, 52, 52, 52, 52, 52, 53, 53, 53, 53, 53, 54, 54, 54, 54, 54, 55, 55, 55, 55, 55, 56, 56, 56, 56, 57, 57, 57, 58, 59, 60
text: 672 pin; Bank 0; ECP-2-50; 67 I/O; JTAG; Bank 1; Bank 8; Config; 62 I/O; Bank 7; Bank 2; 55 I/O; 56 I/O; Bank 6; Bank 3; 63 I/O; 48 I/O; Bank 5; Bank 4; 68 I/O

## Lattice_LCMXO2280
designator U?, comment CPLD  (value not drawn)
Banks; Case: 144-pin TQFP (20x20 mm)
pins: 24, 25, 26, 27, 28, 29, 57, 58, 59
text: LCMXO2280; Max. I/O = 113

## Lattice_MachXO1200
designator U???, comment CPLD  (value not drawn)
Banks; Case: 324-ball ftBGA (19x19 mm)
pins: 1, 2, 3, 16, 17, 18, 19, 20, 21, 22, 23, 24, 25, 26, 27, 28, 29, 30, 31, 32, 33, 34, 35, 36, 37, 38, 39, 40, 41, 42, 43, 44, 45, 46, 47, 48, 49, 50, 51, 52, 53, 54, 55, 56, 57, 58, 59, 60
text: Bank 0; 24 I/O; Bank 1; MachXO1200; 256 pin; 30 I/O; Bank 2; 26 I/O; Bank 7; Bank 3; 28 I/O; Bank 6; Bank 4; 29 I/O; Bank 5; JTAG; 20 I/O

## LED_LTST-C170KRKT
designator D?, comment PWR LED
LED SUPER RED CLEAR 0805 SMD; Part_Number: LTST-C170KRKT; Vendor: LITE-ON INC; Spec: LTST-C170KRKT.pdf; Voltage-Rated: 2.0V; Current: 20mA; Package: 0805; Digi-Key Part Number: 160-1415-1-ND; Lead Free Status: Lead free; RoHS Status: RoHS compliant; Mouser Part_Number: 859-LTST-C170KRKT
footprint 0805-LED
pins: 1 A, 2 K

## LIS3MDLTR
designator Compass, comment LIS3MDL
1: ultra-low-power; 2: high-performance; 3: 3-axis magnetometer

## LIS3MDLTR_1
designator Compass, comment LIS3MDL
1: ultra-low-power; 2: high-performance; 3: 3-axis magnetometer

## LM3401
designator LM3401  1: Hysteretic PFET  2: Controller for High  3: Power LED Drive  (hidden comment: *)

## LM3401_1
designator LM3401  1: Hysteretic PFET  2: Controller for High  3: Power LED Drive  (hidden comment: *)

## lmmi_device
designator U?
pins: active_slave[7..0] (out), baud_rate[7..0] (out), config_reg[7..0] (out), lintr (out), lmmi_clk (in), lmmi_offset[2..0] (in), lmmi_rdata[7..0] (out), lmmi_rdata_valid (out), lmmi_ready (out), lmmi_request (in), lmmi_resetn (in), lmmi_wdata[7..0] (in), lmmi_wr_rdn (in), rd_fifo_aempty (in), rd_fifo_afull (in), rd_fifo_data[7..0] (in), rd_fifo_empty (in), rd_fifo_full (in), rd_fifo_rden (out), wr_fifo_aempty (in), wr_fifo_afull (in), wr_fifo_data[8..0] (out), wr_fifo_empty (in), wr_fifo_full (in), wr_fifo_wren (out)
text: LMMI System Signals; Write Data Interface; LMMI Write Signals; Read Data Interface; LMMI Read Signals; LMMI Controll Signals; Configuration Registers; Lattice Interrupt Interface

## MD_5
designator ??, comment ??  (value not drawn)
pins: 1, 2, 3, 4, 5, 6
text: MD 5; FIFO; MP IF

## MOSFET-N
designator Q??
N-Channel MOSFET; Published: 8-Jun-2000; LatestRevisionDate: 17-Jul-2002; LatestRevisionNote: Re-released for DXP Platform.; PackageVersion: 1995/1996; PackageReference: E3; Publisher: Altium Limited; PackageDescription: TO, Flat Index; 3 In-Line, Axial Leads; Body Dia. 4.6mm; Lead Dia. 0.5 mm (max)
footprint E3 (TO, Flat Index; 3 In-Line, Axial Leads; Body Dia. 4.6mm; Lead Dia. 0.5 mm (max))
simulation model NMOS (MOSFET-N)
pins: 1 D, 2 G, 3 S

## MOSFET-P
designator Q??
P-Channel MOSFET; Published: 8-Jun-2000; LatestRevisionDate: 17-Jul-2002; LatestRevisionNote: Re-released for DXP Platform.; PackageVersion: 1995/1996; PackageReference: E3; Publisher: Altium Limited; PackageDescription: TO, Flat Index; 3 In-Line, Axial Leads; Body Dia. 4.6mm; Lead Dia. 0.5 mm (max)
footprint E3 (TO, Flat Index; 3 In-Line, Axial Leads; Body Dia. 4.6mm; Lead Dia. 0.5 mm (max))
simulation model PMOS (MOSFET-P)
pins: 1 D, 2 G, 3 S

## Motor
designator *
pins: +, -
text: M

## MUX2_1_B
designator U?, comment MUX21  (value not drawn)
2 to 1 Mux
pins: D0 (in), D1 (in), SD (in), Z (out)
text: 0; 1

## MUX2_1_C
designator U?, comment MUX21  (value not drawn)
2 to 1 Mux
pins: D0 (in), D1 (in), Z (out)

## MUX2_1_D
designator U?, comment MUX21  (value not drawn)
2 to 1 Mux
pins: D0 (in), D1 (in), SD (in), Z (out)

## MUX3_1
designator U?  (value not drawn)
3 to 1 Mux
pins: D0 ST_DECODE (in), D1 ST_MRMD_BURST (in), D2 ST_UNALIGNED_READ (in), SD (in), Z (out)
text: current_state

## MUX4_1_1
designator U?, comment MUX4_1  (value not drawn)
4 to 1 Mux 1 line
pins: D0 (in), D1 (in), D2 (in), D3 (in), SD (in), Z (out)

## MUX8_1_1
designator U?, comment MUX81_1  (value not drawn)
2 to 1 Mux
pins: D0 (in), D1 (in), D2 (in), D3 (in), D4 (in), D5 (in), D6 (in), D7 (in), SD (in), Z (out)

## MUX8_1_b
designator U?, comment MUX81_1  (value not drawn)
2 to 1 Mux
pins: D0 (in), D1 (in), D2 (in), D3 (in), D4 (in), D5 (in), D6 (in), D7 (in), SD Addr (in), Z (out)

## MUX21_1
designator U?  (value not drawn)
2 to 1 Mux
pins: D0 (in), D1 (in), SD (in), Z (out)

## MUX41
designator U?  (value not drawn)
4 to 1 Mux
pins: D0 (in), D1 (in), D1 (in), D2 (in), SD (in), Z (out), Z (out)

## MUX_2_1
designator *  (value not drawn)
pins: 9 A (in), [A7..0] A (in), [B7..0] A (in), [Z7..0] A (out)
text: B; S

## MUX_2_1_1
designator *  (value not drawn)
pins: 6 A (out), 7 A (out), 8 A (in), 9 A (in)
text: B; S

## mux_4_to_1
designator U?
pins: i0 (in), i1 (in), i2 (in), i3 (in), out (out), s0 (in), s1 (in)

## NAND_3
designator U?  (value not drawn)
3 Input NAND 1 Not
pins: A (in), B (in), C (in), Y (out)

## NAND_3_1_Not
designator U?
3 Input NAND 1 Not
pins: A (in), B (in), C (in), Y (out)

## NODE
designator *  (value not drawn)
pins: 1 Rd_O1 (out), 2 Rd_O2 (out), 3 D_O (out), 4 D_I1 (in), 5 D_I2 (in), 6 Rd_I (in)

## NOR_3input
designator U?  (value not drawn)
3 Input NOR
pins: A (in), B (in), C (in), Y (out)

## notif0
designator U?
pins: ctrl, in (in), out (out)

## notif1
designator U?
pins: ctrl, in (in), out (out)

## OR
designator U?
2 Input OR
pins: A (in), B (in), Y (out)

## OSC_20MHZ
designator Y?, comment 20MHZ
OSC CLOCK 20.000 MHZ 3.3V SMD RoHS; Part_Number: CB3LV-3C-20M0000-T; Vendor: CTS-Frequency Controls; Spec: CB3,-LV.pdf; Digi-Key Part Number: CTX273LVCT-ND; Value: 20.000MHz; Lead Free Status: Lead free; RoHS Status: RoHS compliant
footprint CB3LV (PAD1.2x1.8, Pitch-5.08x4.2)
pins: 1 CE hidden, 2 GND (power) hidden to GND, 3 OSC (out), 4 VCC (power) hidden to VCC

## PatternGen
designator ??, comment ??  (value not drawn)
pins: 1, 2, 3, 4, 5, 6
text: PATTERN; MP IF; Generator; FIFO

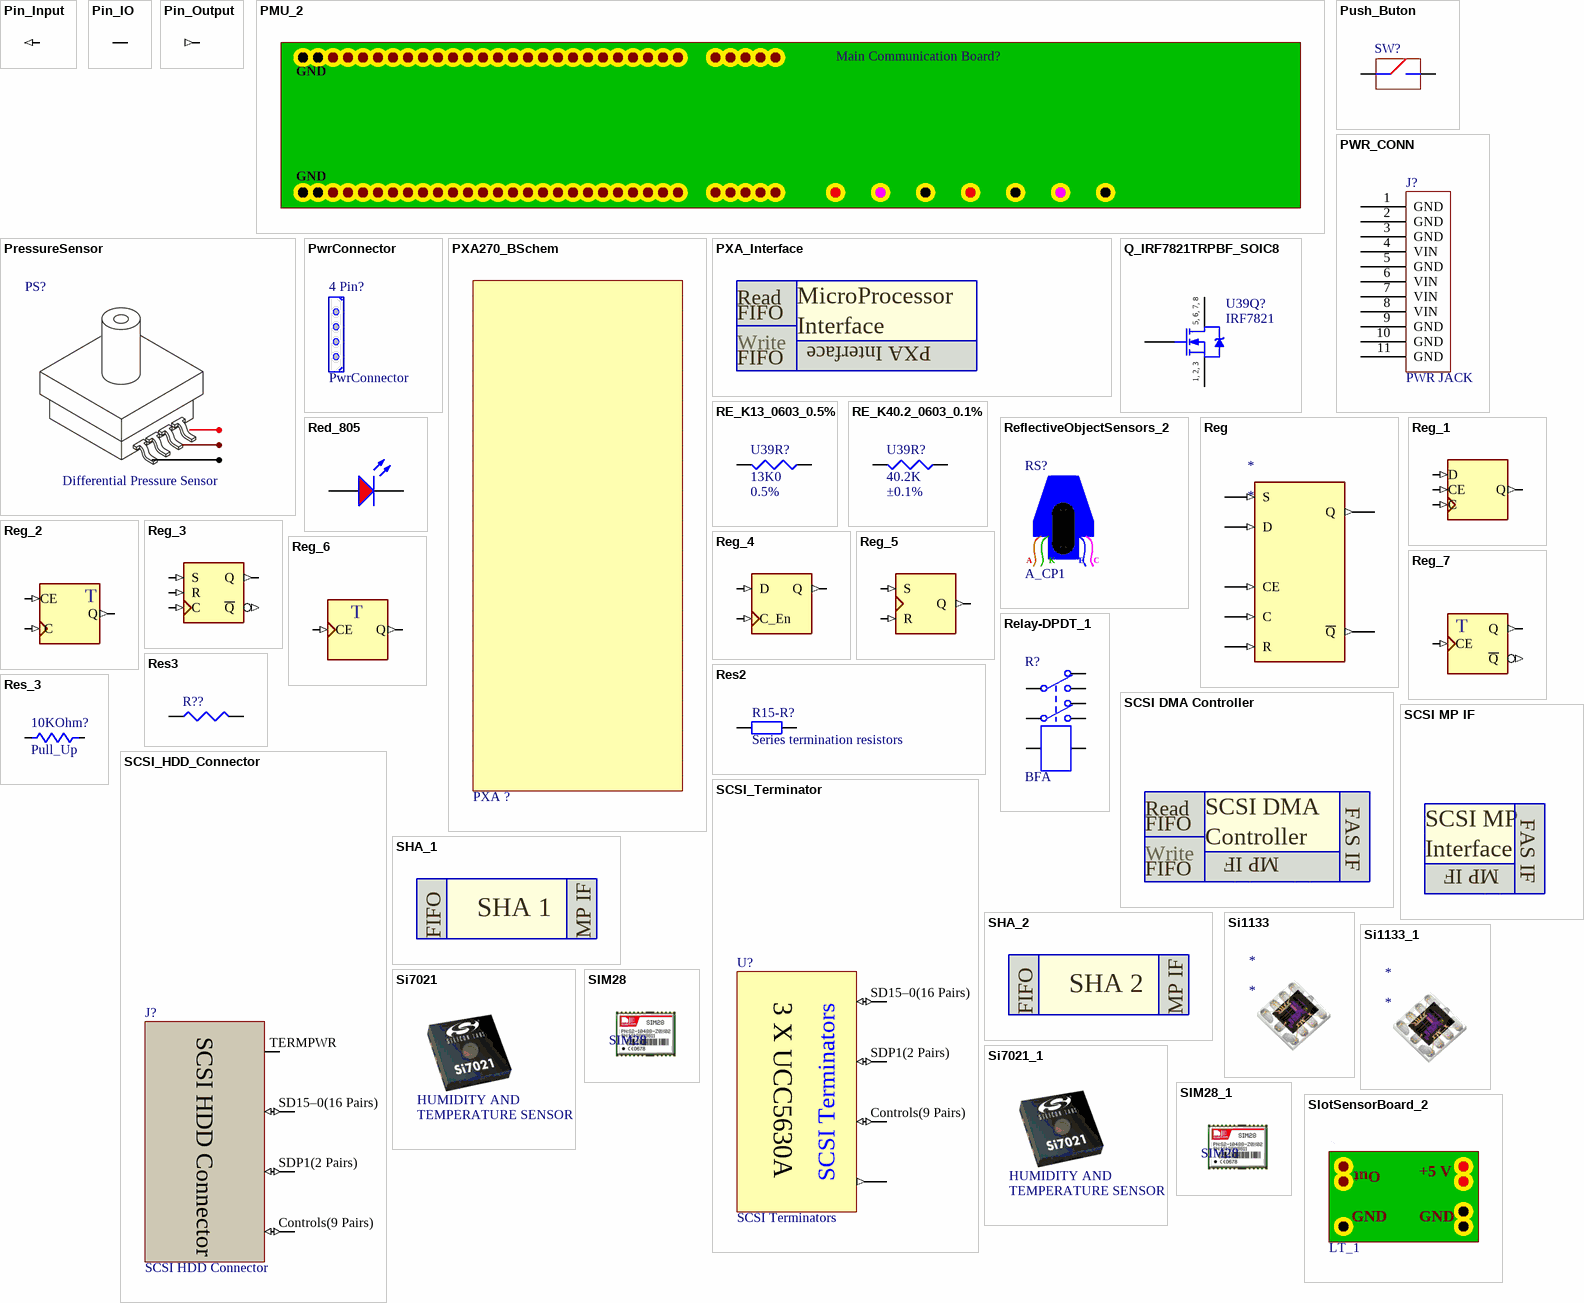
[diagram p5: symbols Pin_Input to SlotSensorBoard_2]

## Pin_Input
designator ??, comment ??  (value not drawn)
pins: ?1 (in)

## Pin_IO
designator ??, comment ??  (value not drawn)
pins: ?1 (io)

## Pin_Output
designator ??, comment ??  (value not drawn)
pins: ?1 (out)

## PMU_2
designator Main Communication Board?, comment Power Management Unit  (value not drawn)
text: GND

## PressureSensor
designator PS?, comment Differential Pressure Sensor

## Push_Buton
designator SW?
footprint TACT_SW_TH (TACT SW TH)
footprint TACT_SW_SMD
footprint TACT_SW_TH (Footprint not found)
pins: 1, 2

## PWR_CONN
designator J?, comment PWR JACK
CONN MINI-DIN 8 PIN FEMALE PCB; Part_Number: MD-80SM; Vendor: CUI Inc; Connector Type: Receptacle with Female Sockets; Number of Contacts: 8; Spec: MD-80SM.pdf; Digi-Key Part Number: CP-2280-ND; Shell Size - Insert: Mini DIN; Series: MD; Contact Type: Solder; Mounting Type: Through Hole, Right Angle; Fastening Type: Push-Pull; Features: Shielded; Packaging: Bulk
footprint MINIDIN8_SKT
pins: 1 GND, 2 GND, 3 GND, 4 VIN, 5 GND, 6 VIN, 7 VIN, 8 VIN, 9 GND, 10 GND, 11 GND

## PwrConnector
designator 4 Pin?
pins: 1, 2, 3, A57 0

## PXA270_BSchem
designator PXA ?  (value not drawn)
pins: 1, 2, 3, 4, 5, 6, 7, 8, 9, 10, 11, 12, 13, 14, 15, 16, 17, 18, 19, 20, 21, 22, 23, 24, 25, 26, 27, 28, 29, 30, 31, 32, 33, 34, 35, 36, 37, 38, 39, 40, 41, 42, 43, 44, 45, 46, 47, 48, 49, 50, 51, 52, 53, 54, 55, 56, 57, 58, 59, 60, 61, 62, 63, 64, 65, 66

## PXA_Interface
designator U??, comment U?  (value not drawn)
pins: 1, 2, 2, 2, 3, 3, 3, 3, 3, 4, 4, 4, 4, 4, 4, 4, 5, 5, 5, 5, 5, 6, 6, 6, 6, 7
text: Read; MicroProcessor; FIFO; Interface; PXA Interface; Write

## Q_IRF7821TRPBF_SOIC8
designator U39Q?, comment IRF7821
MOSFET N-CH 30V 13.6A 8-SOIC; Part_Number: IRF7821TRPBF; Vendor: International Rectifier; Package: 8-SOIC; Digi-Key Part Number: IRF7821PBFTR-ND; Lead Free Status: Lead free; RoHS Status: RoHS compliant; Spec: IRF7821; Series: N-Channel; Current Rating: 13.6A; Voltage-Rated: 30V
footprint SOIC-8
pins: 1 S, 2 S, 3 S, 4 G, 5 D, 6 D, 7 D, 8 D
text: 5, 6, 7, 8; 1, 2, 3

## RE_K13_0603_0.5%
designator U39R?, comment 13K0  Tolerance: 0.5%
RES 13K OHM 1/10W .5% 0603 SMD; Part_Number: RT0603DRD0713KL; Vendor: Yageo Corporation; Power: 0.1 W, 1/10 W; Spec: RT; Value: 13K; Digi-Key Part Number: 311-13KDCT-ND; Lead Free Status: Lead free; RoHS Status: RoHS compliant; Package: 0603 (1608); Series: RT
footprint 0603
simulation model RESISTOR (Resistor)
signal-integrity model Res
pins: 1, 2
1 alternate drawing of the same symbol

## RE_K40.2_0603_0.1%
designator U39R?, comment value 40.2K  Tolerance: ±0.1%  (hidden comment: 40K2)
RES 40.2K OHM 1/10W .1% 0603 SMD RoHS; Part_Number: RG1608P-4022-B-T5; Vendor: Susumu Co Ltd; Power: 0.1 W, 1/10 W; Spec: RG; Digi-Key Part Number: RG16P40.2KBCT-ND; Lead Free Status: Lead free; RoHS Status: RoHS compliant; Package: 0603; Series: RG
footprint 0603
simulation model RESISTOR (Resistor)
signal-integrity model Res
pins: 1, 2
1 alternate drawing of the same symbol

## Red_805
designator DS?, comment Red  (value not drawn)
LED RED S-J TYPE 0805; Manufacturer Part Number: LNJ206R5RRX; Vendor: Panasonic - SSG; Millicandela Rating: 0.4; Voltage Rating: 4V; Wavelength: 700 nm; Revision: 060924; Digi-Key Part Number: P11490TR-ND; Color: Red; Package / Case: 0805; Packaging: Tape & Reel (TR)
pins: 1 A, 2 K

## ReflectiveObjectSensors_2
designator RS?, comment A_CP1
text: A; K; E; C

## Reg
designator *
pins: 1 D (in), 2 CE (in), 3 C (in), 4 R (in), 5 S (in), 6 Q (out), 7 ~{Q} (out)

## Reg_1
designator *  (value not drawn)
pins: 1 D (in), 2 D (in), 3 C (in), 6 Q (out)
text: CE

## Reg_2
designator *  (value not drawn)
pins: 1 D (in), 3 C (in), 6 Q (out)
text: T; CE

## Reg_3
designator *  (value not drawn)
pins: 3 C (in), 4 R (in), 5 S (in), 6 Q (out), 7 ~{Q} (out)

## Reg_4
designator *  (value not drawn)
pins: 3 C_En (in), [D7..D0] D (in), [Q7..Q0] Q (out)

## Reg_5
designator *  (value not drawn)
pins: 4 R (in), 5 S (in), 6 Q (out)

## Reg_6
designator *  (value not drawn)
pins: CE (in), Q (out)
text: T

## Reg_7
designator *  (value not drawn)
pins: 1 D (in), 6 Q (out), 7 ~{Q} (out)
text: T; CE

## Relay-DPDT_1
designator R?, comment BFA
Dual-Pole Dual-Throw Relay; Published: 24-Mar-1999; LatestRevisionDate: 17-Jul-2002; LatestRevisionNote: Re-released for DXP Platform.; PackageReference: DIP-P8; Publisher: Altium Limited
footprint DIP-P8 (Dual-Pole Dual-Throw Relay; 8 Leads)
simulation model DPDTRELAY (Spice Subcircuit)

## Res2
designator R15-R?, comment Series termination resistors
Resistor
footprint AXIAL-0.4 (Resistor; 2 Leads)
simulation model RESISTOR (Resistor)
signal-integrity model Res
pins: 1, 2

## Res3
designator R??  (value not drawn)
Resistor; Value: 1K; Published: 8-Jun-2000; LatestRevisionDate: 29-May-2009; LatestRevisionNote: IPC-7351 Footprint Added.; PackageReference: J1-0603; Publisher: Altium Limited; PackageDescription: Chip Resistor
footprint J1-0603 (Chip Resistor, Body 1.6x0.8mm, IPC High Density)
footprint 14-1210 (Chip Resistor, Body 3.2x2.5mm, IPC High Density)
footprint 12Z-2010 (Chip Resistor, Body 5.0x2.5mm, IPC High Density)
footprint RESC6332 (Chip Resistor, Body 6.3x3.2mm, IPC High Density)
simulation model RESISTOR (Resistor)
signal-integrity model Res
pins: 1, 2

## Res_3
designator 10KOhm?, comment Pull_Up
Resistor
footprint 603
footprint 805
footprint 2512
pins: 1, 2

## SCSI DMA Controller
designator U??, comment U?  (value not drawn)
pins: 1, 2, 2, 3, 3, 3, 4, 4, 4, 5, 6
text: FAS IF; Read; SCSI DMA; FIFO; Controller; MP IF; Write

## SCSI MP IF
designator U??, comment U?  (value not drawn)
pins: 1, 2, 3, 4, 4, 5, 6, 6, 7, 7, 8
text: FAS IF; SCSI MP; Interface; MP IF

## SCSI_HDD_Connector
designator J?, comment SCSI HDD Connector
pins: Controls(9 Pairs) (io), SD15–0(16 Pairs) (io), SDP1(2 Pairs) (io), TERMPWR

## SCSI_Terminator
designator U?, comment SCSI Terminators
pins: ?1 (out), Controls(9 Pairs) (io), SD15–0(16 Pairs) (io), SDP1(2 Pairs) (io)
text: 3 X UCC5630A

## SHA_1
designator ??, comment ??  (value not drawn)
pins: 1, 2, 3, 4, 5, 6
text: SHA 1; FIFO; MP IF

## SHA_2
designator ??, comment ??  (value not drawn)
pins: 1, 2, 3, 4, 5, 6
text: SHA 2; FIFO; MP IF

## Si1133
designator *

## Si1133_1
designator *

## Si7021
designator HUMIDITY AND, comment 1: HUMIDITY AND  (hidden comment: TEMPERATURE SENSOR)
2: TEMPERATURE SENSOR

## Si7021_1
designator HUMIDITY AND, comment 1: HUMIDITY AND  (hidden comment: TEMPERATURE SENSOR)
2: TEMPERATURE SENSOR

## SIM28
designator SIM28  (value not drawn)

## SIM28_1
designator SIM28  (value not drawn)

## SlotSensorBoard_2
designator Slot_Sensor?, comment LT_1
text: Out; +5 V; GND

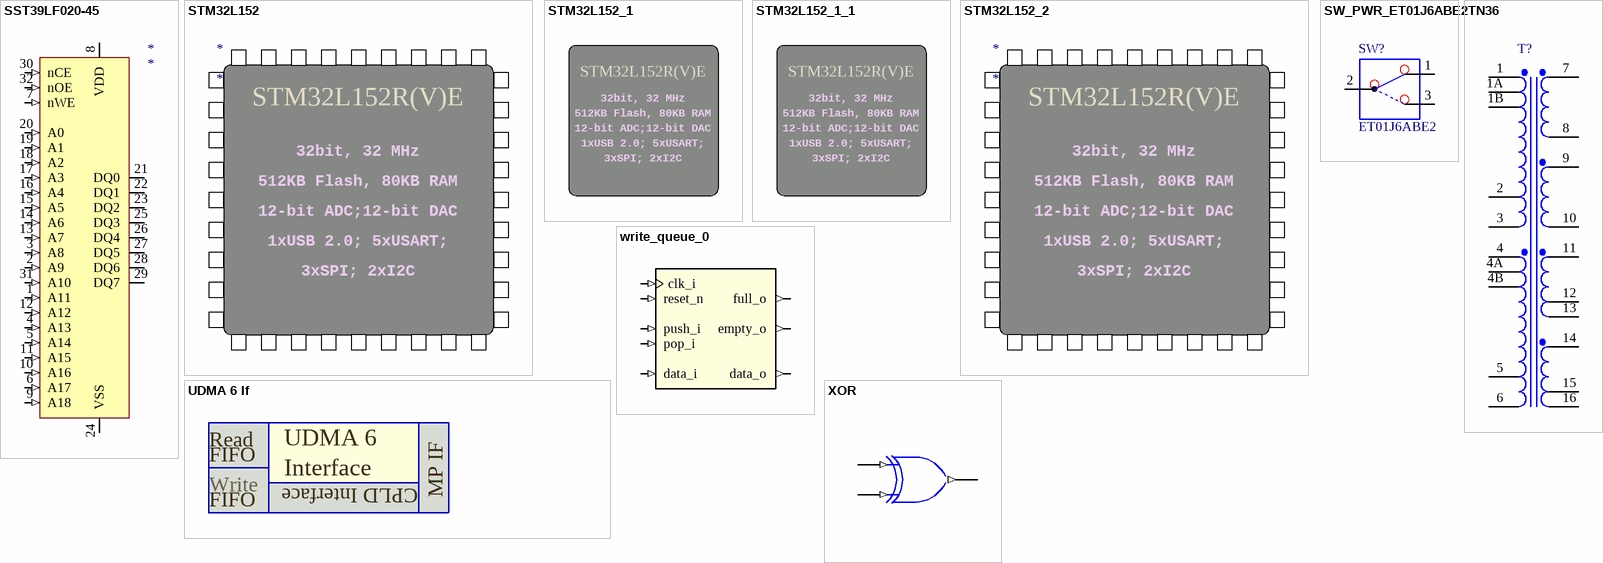
[diagram p6: symbols SST39LF020-45 to XOR]

## SST39LF020-45
designator *
pins: 1 A11 (in), 2 A9 (in), 3 A8 (in), 4 A13 (in), 5 A14 (in), 6 A17 (in), 7 nWE (in), 8 VDD (power), 9 A18 (in), 10 A16 (in), 11 A15 (in), 12 A12 (in), 13 A7 (in), 14 A6 (in), 15 A5 (in), 16 A4 (in), 17 A3 (in), 18 A2 (in), 19 A1 (in), 20 A0 (in), 21 DQ0 (io), 22 DQ1 (io), 23 DQ2 (io), 24 VSS (power), 25 DQ3 (io), 26 DQ4 (io), 27 DQ5 (io), 28 DQ6 (io), 29 DQ7 (io), 30 nCE (in), 31 A10 (in), 32 nOE (in)

## STM32L152
designator *
text: STM32L152R(V)E; 32bit, 32 MHz; 512KB Flash, 80KB RAM; 12-bit ADC;12-bit DAC; 1xUSB 2.0; 5xUSART;; 3xSPI; 2xI2C

## STM32L152_1
designator U?, comment STML152  (value not drawn)
text: STM32L152R(V)E; 32bit, 32 MHz; 512KB Flash, 80KB RAM; 12-bit ADC;12-bit DAC; 1xUSB 2.0; 5xUSART;; 3xSPI; 2xI2C

## STM32L152_1_1
designator U?, comment STML152  (value not drawn)
text: STM32L152R(V)E; 32bit, 32 MHz; 512KB Flash, 80KB RAM; 12-bit ADC;12-bit DAC; 1xUSB 2.0; 5xUSART;; 3xSPI; 2xI2C

## STM32L152_2
designator *
text: STM32L152R(V)E; 32bit, 32 MHz; 512KB Flash, 80KB RAM; 12-bit ADC;12-bit DAC; 1xUSB 2.0; 5xUSART;; 3xSPI; 2xI2C

## SW_PWR_ET01J6ABE2
designator SW?, comment ET01J6ABE2
SWITCH ROCKER SPDT .4VA RT ANGLE; Vendor: MOLEX; Spec: C&K ET Series.pdf; Digi-Key Part Number: CKN2077-ND; Lead Free Status: Lead free; RoHS Status: RoHS compliant; Part_Number: ET01J6ABE2
footprint SW_SPDT_B (RT)
pins: 1, 2, 3, 4 GND hidden to GND, 5 GND hidden to GND

## TN36
designator T?  (value not drawn)
TN-36
pins: 1, 1A, 1B, 2, 3, 4, 4A, 4B, 5, 6, 7, 8, 9, 10, 11, 12, 13, 14, 15, 16

## UDMA 6 If
designator U??, comment U?  (value not drawn)
pins: 1, 2, 2, 2, 3, 3, 3, 3, 3, 4, 4, 4, 4, 4, 4, 4, 5, 5, 5, 5, 5, 6, 6, 6, 6, 7
text: Read; UDMA 6; FIFO; Interface; CPLD Interface; Write; MP IF

## write_queue_0
designator ?  (value not drawn)
pins: ?1 full_o (out), ?2 empty_o (out), ?3 data_o (out), func_reset_ni clk_i (in), func_reset_ni reset_n (in), func_reset_ni push_i (in), func_reset_ni pop_i (in), func_reset_ni data_i (in)

## XOR
designator U?
pins: 1 A (in), 2 B (in), 3 Y (out), 7 GND (power) hidden to GND, 14 VDD (power) hidden to VDD